# Altium footprint library SparkFun-LED.PCBLIB: 34 footprints (part 2 of 3)
Each footprint in its own frame and in the unit in brackets; x right, y up, seen from the top. Pads: shape width x height; smd on the part's side, far side on the other; paste and mask are expansions set on the pad; w line width, h text height; cw(c..) or ccw(c..) is an arc to the next point about the centre after c.
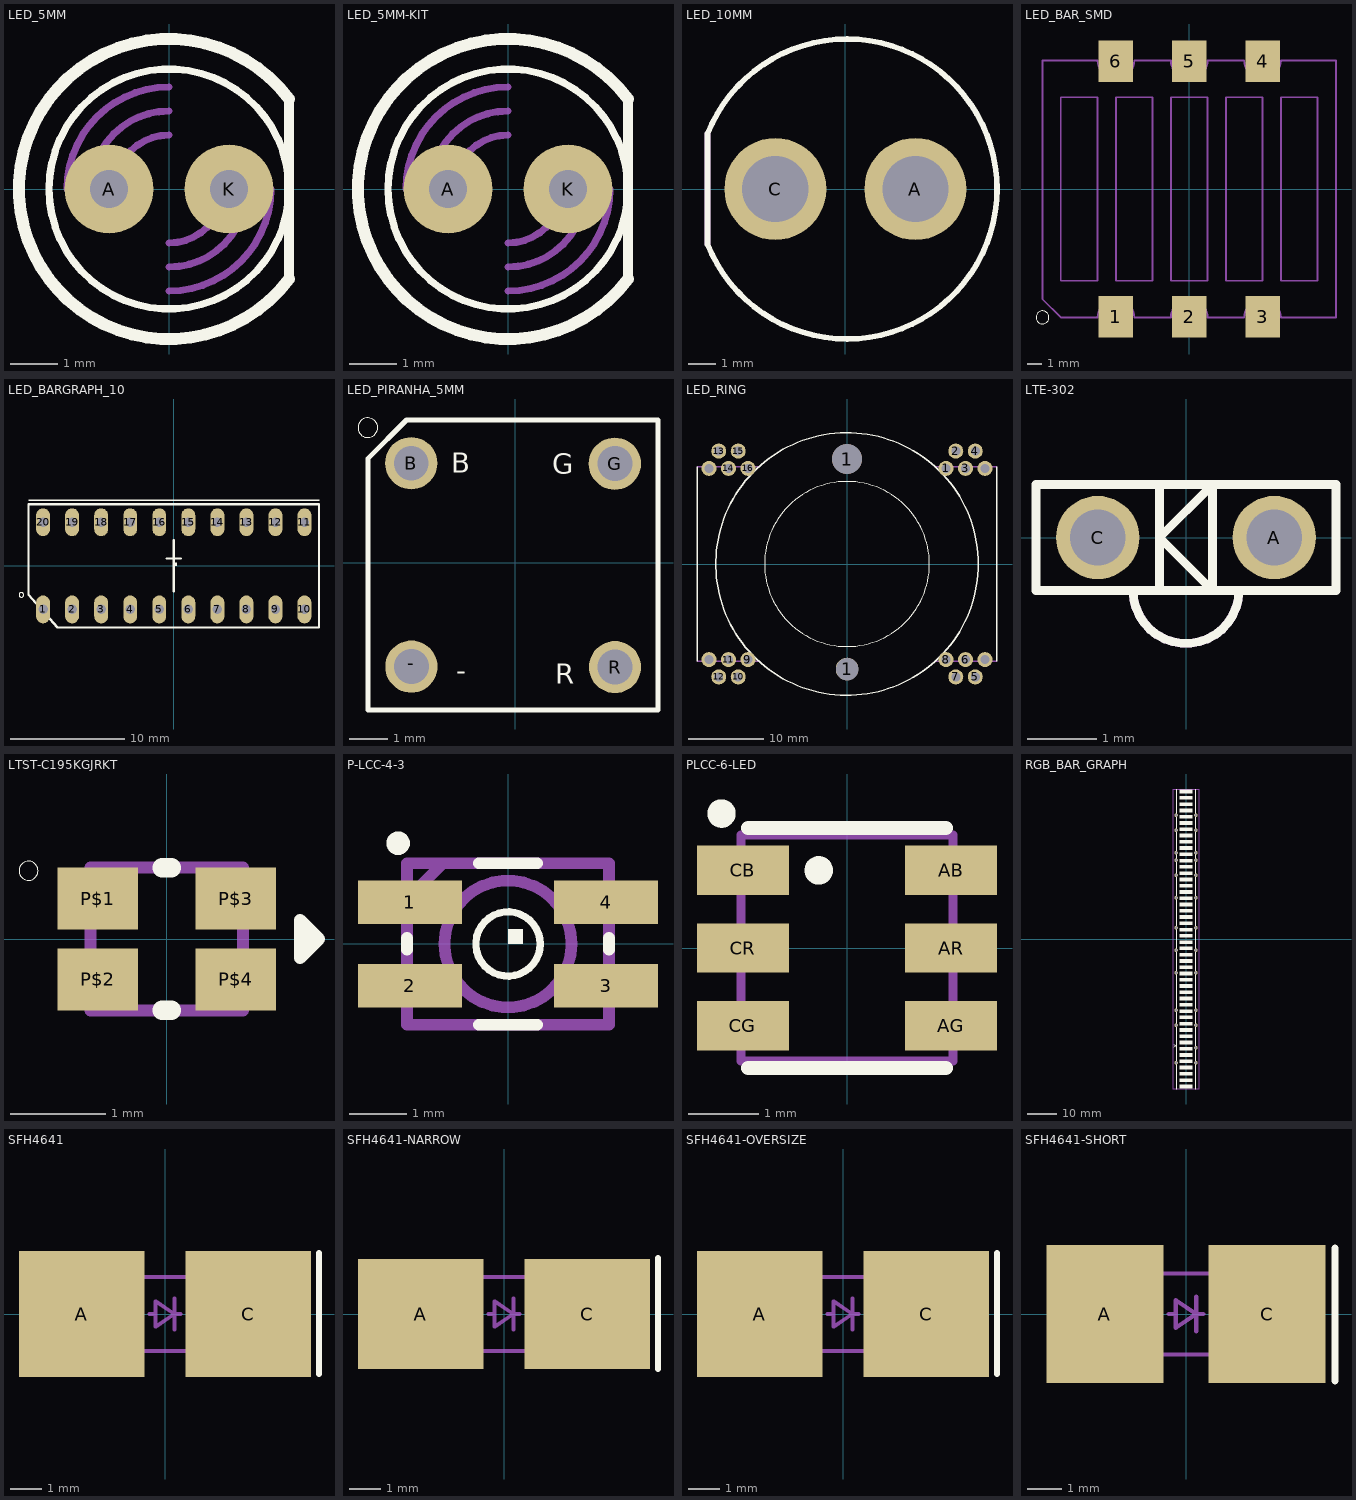
[diagram p1: the footprints below, top view; thin cyan lines are the x and y axes]

## LED_5MM [mil]
pads (2):
  round 74 hole 32: A(-50,0) K(50,0)
Top Overlay:
  circle w6: c0,0 r100
  lines w8: 100,-75 100,75
  lines w10: 100,-75 cw(c0,0) 100,75
Bottom Overlay:
  lines w8: 100,-75 100,75
Mechanical 16:
  lines w6: -85,0 cw(c0,0) 0,85 ; -65,0 cw(c0,0) 0,65 ; -45,0 cw(c0,0) 0,45 ; 0,-85 ccw(c0,0) 85,0 ; 0,-65 ccw(c0,0) 65,0 ; 0,-45 ccw(c0,0) 45,0
  lines w8: 100,-75 100,75

## LED_5MM-KIT [mil]
pads (2):
  round 74 hole 32: A(-50,0) K(50,0)
Top Overlay:
  circle w6: c0,0 r100
  lines w8: 100,-75 100,75
  lines w10: 100,-75 cw(c0,0) 100,75
Bottom Overlay:
  lines w8: 100,-75 100,75
Top Solder:
  region: 0,0 10,0 10,10 0,10
  region: 0,0 10,0 10,10 0,10
Bottom Solder:
  region: 0,0 10,0 10,10 0,10
  region: 0,0 10,0 10,10 0,10
Mechanical 16:
  lines w6: -85,0 cw(c0,0) 0,85 ; -65,0 cw(c0,0) 0,65 ; -45,0 cw(c0,0) 0,45 ; 0,-85 ccw(c0,0) 85,0 ; 0,-65 ccw(c0,0) 65,0 ; 0,-45 ccw(c0,0) 45,0
  lines w8: 100,-75 100,75

## LED_10MM [mm]
pads (2):
  round 3.7 hole 2.4: A(2.54,0) C(-2.54,0)
Top Overlay:
  lines w0.203: -5,-2 ccw(c0.059,0) -5,2 -5,-2
Bottom Overlay:
  lines w0.203: -5,-2 -5,2
Mechanical 16:
  lines w0.203: -5,-2 -5,2
  text "L" at 2.159,2.54 h1.57
  text "S" at -2.921,2.54 h1.57

## LED_BAR_SMD [mil]
pads (6):
  rect 94.49x113.39 smd: 1(-200,-348.03) 2(0,-348.03) 3(200,-348.03) 4(200,348.03) 5(0,348.03) 6(-200,348.03)
Top Overlay:
  circle w0: c-400,-350 r17.68
Mechanical 14:
  lines w5: -400,-300 -400,350 -250,350 ccw(c-200,350) -200,300 ccw(c-200,350) -150,350 -50,350 ccw(c0,350) 0,300 ccw(c0,350) 50,350 150,350 ccw(c200,350) 200,300 ccw(c200,350) 250,350 400,350 400,-350 250,-350 ccw(c200,-350) 200,-300 ccw(c200,-350) 150,-350 50,-350 ccw(c0,-350) 0,-300 ccw(c0,-350) -50,-350 -150,-350 ccw(c-200,-350) -200,-300 ccw(c-200,-350) -250,-350 -350,-350 -400,-300 ; -350,-250 -250,-250 -250,250 -350,250 -350,-250 ; -200,-250 -100,-250 -100,250 -200,250 -200,-250 ; -50,-250 50,-250 50,250 -50,250 -50,-250 ; 100,-250 200,-250 200,250 100,250 100,-250 ; 250,-250 350,-250 350,250 250,250 250,-250

## LED_BARGRAPH_10 [mil]
pads (20):
  oval 48x96 hole 32: 1(-450,-150) 2(-350,-150) 3(-250,-150) 4(-150,-150) 5(-50,-150) 6(50,-150) 7(150,-150) 8(250,-150) 9(350,-150) 10(450,-150) 11(450,150) 12(350,150) 13(250,150) 14(150,150) 15(50,150) 16(-50,150) 17(-150,150) 18(-250,150) 19(-350,150) 20(-450,150)
Top Overlay:
  circle w0: c-525,-100 r8
  region: 0,0 10,0 10,10 0,10
  lines w5: -500,225 500,225
  lines w8: -25,25 25,25 ; 0,-87.5 0,87.5 ; -500,-100 -400,-212.5 500,-212.5 500,212.5 -500,212.5 -500,-100

## LED_PIRANHA_5MM [mil]
pads (4):
  round 53.15 hole 35.43: -(-105.67,-105.67) B(-105.83,101.34) G(101.38,100.87) R(101.54,-106.14)
Top Overlay:
  circle w0: c-150,137.5 r10
  lines w5: -150,-150 145.28,-150 145.28,145.28 -110.63,145.28 -150,105.91 -150,-150
  text "B" at -64.96,91.46 h20.4
  text "G" at 37.87,90.47 h20.4
  text "R" at 40.83,-123.27 h20.4
  text "-" at -60,-119.33 h20.4

## LED_RING [mm]
pads (22):
  round 3 hole 3: 1(0,-14)
  round 4 hole 4: 1(0,14)
  round 2 hole 1.2: 1(13.2,12.75) 2(14.5,15.05) 3(15.8,12.75) 4(17.1,15.05) 5(17.1,-15.05) 6(15.8,-12.75) 7(14.5,-15.05) 8(13.2,-12.75) 9(-13.2,-12.75) 10(-14.5,-15.05) 11(-15.8,-12.75) 12(-17.1,-15.05) 13(-17.1,15.05) 14(-15.8,12.75) 15(-14.5,15.05) 16(-13.2,12.75) COM0(18.4,12.75) COM1(18.4,-12.75) COM2(-18.4,-12.75) COM3(-18.4,12.75)
Top Overlay:
  circle w0.178: c0,0 r17.5
  circle w0.127: c0,0 r11
  lines w0.178: -20,-13 -20,13 ; 20,-13 20,13
Mechanical 16:
  lines w0.178: -20,-13 -11.7,-13 ; -20,13 -11.7,13 ; 11.7,-13 20,-13 ; 11.7,13 20,13

## LTE-302 [mil]
pads (2):
  round 47.25 hole 31.5: A(50,0) C(-50,0)
Top Overlay:
  lines w5: -30,-30 -15,-30 ; -30,-30 -85,-30 -85,30 -15,30 ; -30,-30 ccw(c0,-30) 30,-30 ; -15,-30 15,-30 ; -15,-30 -15,0 ; -15,0 15,30 ; -15,0 15,-30 ; -15,0 -15,30 ; -15,30 15,30 ; 15,-30 30,-30 ; 15,-30 15,30 ; 15,30 85,30 85,-30 30,-30
Mechanical 16:
  lines w5: -30,-30 ccw(c0,-30) 30,-30

## LTST-C195KGJRKT [mm]
pads (4):
  rect 0.85x0.65 smd: P$1(-0.725,0.425) P$2(-0.725,-0.425) P$3(0.725,0.425) P$4(0.725,-0.425)
Top Overlay:
  circle w0: c-1.453,0.718 r0.1
  lines w0.127: 1.5,-0.1 1.4,-0.2 1.4,0.2 1.5,0.1 ; 1.5,-0.1 1.6,0 1.5,0.1 ; 1.5,-0.1 1.5,0.1
  lines w0.203: -0.05,-0.75 0.05,-0.75 ; -0.05,0.75 0.05,0.75
Mechanical 16:
  circle w0: c-0.5,0.4 r0.1
  lines w0.127: -0.8,-0.75 0.8,-0.75 0.8,0.75 -0.8,0.75 -0.8,-0.75

## P-LCC-4-3 [mil]
pads (4):
  rect 70.87x29.53 smd: 1(-66.93,28.54) 2(-66.93,-28.54) 3(66.93,-28.54) 4(66.93,28.54)
Top Overlay:
  circle w5: c0,0 r21.95
  circle w12: c-75,68.75 r2
  region: 0,0 10,0 10,10 0,10
  lines w8: -68.9,-4 -68.9,4 ; -20,-55.12 20,-55.12 ; -20,55.12 20,55.12 ; 68.9,-4 68.9,4
Mechanical 16:
  circle w8: c0,0 r43.31
  lines w8: -67.57,31.88 -45.91,53.54 ; -68.9,-55.12 -68.9,55.12 68.9,55.12 68.9,-55.12 -68.9,-55.12

## PLCC-6-LED [mil]
pads (6):
  rect 51.18x27.56 smd: AB(58.07,43.31) AG(58.07,-43.31) AR(58.07,0) CB(-58.07,43.31) CG(-58.07,-43.31) CR(-58.07,0)
Top Overlay:
  circle w8: c-15.75,43.31 r3.94
  circle w8: c-70,75 r3.94
  lines w8: -55.12,-66.93 55.12,-66.93 ; -55.12,66.93 55.12,66.93
Mechanical 16:
  circle w0: c-51.18,51.18 r3.94
  lines w5: -59.06,-62.99 59.06,-62.99 59.06,62.99 -59.06,62.99 -59.06,-62.99

## RGB_BAR_GRAPH [mil]
pads (25):
  round 47.25 hole 31.5: 1(132.28,-1649.61) 2(132.28,-1449.61) 3(132.28,-1149.61) 4(132.28,-949.61) 5(132.28,-449.61) 6(132.28,-149.61) 7(132.28,150.39) 8(132.28,550.39) 9(132.28,850.39) 10(132.28,1050.39) 11(132.28,1150.39) 12(132.28,1450.39) 13(132.28,1650.39) 14(-132.28,1650.39) 15(-132.28,1450.39) 16(-132.28,1150.39) 17(-132.28,1050.39) 18(-132.28,850.39) 19(-132.28,550.39) 20(-132.28,150.39) 21(-132.28,-149.61) 22(-132.28,-449.61) 23(-132.28,-949.61) 24(-132.28,-1149.61) 25(-132.28,-1649.61)
Top Overlay:
  rectangle: -88.58,16.73 88.58,65.94
  rectangle: -88.58,100.39 88.58,149.61
  rectangle: -88.58,184.06 88.58,233.27
  rectangle: -88.58,267.72 88.58,316.93
  rectangle: -88.58,351.38 88.58,400.59
  rectangle: -88.58,435.04 88.58,484.25
  rectangle: -88.58,518.7 88.58,567.91
  rectangle: -88.58,602.36 88.58,651.57
  rectangle: -88.58,686.02 88.58,735.24
  rectangle: -88.58,769.69 88.58,818.9
  rectangle: -88.58,853.35 88.58,902.56
  rectangle: -88.58,937.01 88.58,986.22
  rectangle: -88.58,1020.67 88.58,1069.88
  rectangle: -88.58,1104.33 88.58,1153.54
  rectangle: -88.58,1187.99 88.58,1237.2
  rectangle: -88.58,1271.65 88.58,1320.87
  rectangle: -88.58,1355.31 88.58,1404.53
  rectangle: -88.58,1438.98 88.58,1488.19
  rectangle: -88.58,1522.64 88.58,1571.85
  rectangle: -88.58,1606.3 88.58,1655.51
  rectangle: -88.58,1689.96 88.58,1739.17
  rectangle: -88.58,1773.62 88.58,1822.83
  rectangle: -88.58,1857.28 88.58,1906.5
  rectangle: -88.58,1940.94 88.58,1990.16
  region: 88.58,-16.73 -88.58,-16.73 -88.58,-65.94 88.58,-65.94
  region: 88.58,-100.39 -88.58,-100.39 -88.58,-149.61 88.58,-149.61
  region: 88.58,-184.06 -88.58,-184.06 -88.58,-233.27 88.58,-233.27
  region: 88.58,-267.72 -88.58,-267.72 -88.58,-316.93 88.58,-316.93
  region: 88.58,-351.38 -88.58,-351.38 -88.58,-400.59 88.58,-400.59
  region: 88.58,-435.04 -88.58,-435.04 -88.58,-484.25 88.58,-484.25
  region: 88.58,-518.7 -88.58,-518.7 -88.58,-567.91 88.58,-567.91
  region: 88.58,-602.36 -88.58,-602.36 -88.58,-651.57 88.58,-651.57
  region: 88.58,-686.02 -88.58,-686.02 -88.58,-735.24 88.58,-735.24
  region: 88.58,-769.69 -88.58,-769.69 -88.58,-818.9 88.58,-818.9
  region: 88.58,-853.35 -88.58,-853.35 -88.58,-902.56 88.58,-902.56
  region: 88.58,-937.01 -88.58,-937.01 -88.58,-986.22 88.58,-986.22
  region: 88.58,-1020.67 -88.58,-1020.67 -88.58,-1069.88 88.58,-1069.88
  region: 88.58,-1104.33 -88.58,-1104.33 -88.58,-1153.54 88.58,-1153.54
  region: 88.58,-1187.99 -88.58,-1187.99 -88.58,-1237.2 88.58,-1237.2
  region: 88.58,-1271.65 -88.58,-1271.65 -88.58,-1320.87 88.58,-1320.87
  region: 88.58,-1355.31 -88.58,-1355.31 -88.58,-1404.53 88.58,-1404.53
  region: 88.58,-1438.98 -88.58,-1438.98 -88.58,-1488.19 88.58,-1488.19
  region: 88.58,-1522.64 -88.58,-1522.64 -88.58,-1571.85 88.58,-1571.85
  region: 88.58,-1606.3 -88.58,-1606.3 -88.58,-1655.51 88.58,-1655.51
  region: 88.58,-1689.96 -88.58,-1689.96 -88.58,-1739.17 88.58,-1739.17
  region: 88.58,-1773.62 -88.58,-1773.62 -88.58,-1822.83 88.58,-1822.83
  region: 88.58,-1857.28 -88.58,-1857.28 -88.58,-1906.5 88.58,-1906.5
  region: 88.58,-1940.94 -88.58,-1940.94 -88.58,-1990.16 88.58,-1990.16
  lines w5: -132.48,-2000 -132.48,2000 ; 132.48,-2000 132.48,2000
  text "+" at -129.92,-1497.05 h122.05
Mechanical 1:
  lines w5: -167.32,-2000 167.32,-2000 167.32,2000 -167.32,2000 -167.32,-2000
Mechanical 16:
  text "1" at 115,-1990 h77.5
  text "2" at 115,-1905 h77.5
  text "3" at 115,-1825 h77.5
  text "Segment" at -110,-1985 h77.5

## SFH4641 [mm]
pads (2):
  rect 4x4 smd: A(-2.65,0) C(2.65,0)
Top Overlay:
  lines w0.203: 4.904,-1.905 4.904,1.929
Top Paste:
  region: 0.65,1.2 0.65,-1.2 2,-1.2 2,1.2
  region: -0.65,-1.2 -0.65,1.2 -2,1.2 -2,-1.2
Top Solder:
  region: 0.65,1.2 0.65,-1.2 2,-1.2 2,1.2
  region: -0.65,-1.2 -0.65,1.2 -2,1.2 -2,-1.2
Mechanical 16:
  lines w0.127: -0.5,0 -0.3,0 ; 0.3,-0.5 0.3,0 ; 0.3,0.5 0.3,0 ; 0.5,0 0.3,0 ; -0.3,0 -0.3,0.4 0.3,0 ; -0.3,0 -0.3,-0.4 0.3,0 ; -1.65,-1.175 -1.65,1.175 1.65,1.175 1.65,-1.175 -1.65,-1.175

## SFH4641-NARROW [mm]
pads (2):
  rect 4x3.5 smd: A(-2.65,0) C(2.65,0)
Top Overlay:
  lines w0.203: 4.904,-1.746 4.904,1.77
Top Paste:
  region: 0.65,1.2 0.65,-1.2 2,-1.2 2,1.2
  region: -0.65,-1.2 -0.65,1.2 -2,1.2 -2,-1.2
Top Solder:
  region: 0.65,1.2 0.65,-1.2 2,-1.2 2,1.2
  region: -0.65,-1.2 -0.65,1.2 -2,1.2 -2,-1.2
Mechanical 16:
  lines w0.127: -0.5,0 -0.3,0 ; 0.3,-0.5 0.3,0 ; 0.3,0.5 0.3,0 ; 0.5,0 0.3,0 ; -0.3,0 -0.3,0.4 0.3,0 ; -0.3,0 -0.3,-0.4 0.3,0 ; -1.65,-1.175 -1.65,1.175 1.65,1.175 1.65,-1.175 -1.65,-1.175

## SFH4641-OVERSIZE [mm]
pads (2):
  rect 4x4 smd: A(-2.65,0) C(2.65,0)
Top Overlay:
  lines w0.203: 4.904,-1.905 4.904,1.929
Top Paste:
  region: 0.65,1.4 0.65,-1.4 2.2,-1.4 2.2,1.4
  region: -2.2,1.4 -2.2,-1.4 -0.65,-1.4 -0.65,1.4
Top Solder:
  region: 0.65,1.4 0.65,-1.4 2.2,-1.4 2.2,1.4
  region: -2.2,1.4 -2.2,-1.4 -0.65,-1.4 -0.65,1.4
Mechanical 16:
  lines w0.127: -0.5,0 -0.3,0 ; 0.3,-0.5 0.3,0 ; 0.3,0.5 0.3,0 ; 0.5,0 0.3,0 ; -0.3,0 -0.3,0.4 0.3,0 ; -0.3,0 -0.3,-0.4 0.3,0 ; -1.65,-1.175 -1.65,1.175 1.65,1.175 1.65,-1.175 -1.65,-1.175

## SFH4641-SHORT [mm]
pads (2):
  rect 3.4x4 smd: A(-2.35,0) C(2.35,0)
Top Overlay:
  lines w0.203: 4.316,-1.937 4.316,1.913
Top Paste:
  region: 0.65,1.2 0.65,-1.2 2,-1.2 2,1.2
  region: -0.65,-1.2 -0.65,1.2 -2,1.2 -2,-1.2
Top Solder:
  region: 0.65,1.2 0.65,-1.2 2,-1.2 2,1.2
  region: -0.65,-1.2 -0.65,1.2 -2,1.2 -2,-1.2
Mechanical 16:
  lines w0.127: -0.5,0 -0.3,0 ; 0.3,-0.5 0.3,0 ; 0.3,0.5 0.3,0 ; 0.5,0 0.3,0 ; -0.3,0 -0.3,0.4 0.3,0 ; -0.3,0 -0.3,-0.4 0.3,0 ; -1.65,-1.175 -1.65,1.175 1.65,1.175 1.65,-1.175 -1.65,-1.175